# EAGLE library part AT24C512B (library memory-atmel)
EEPROM I2C serial bus, 512K (65,536 x 8)
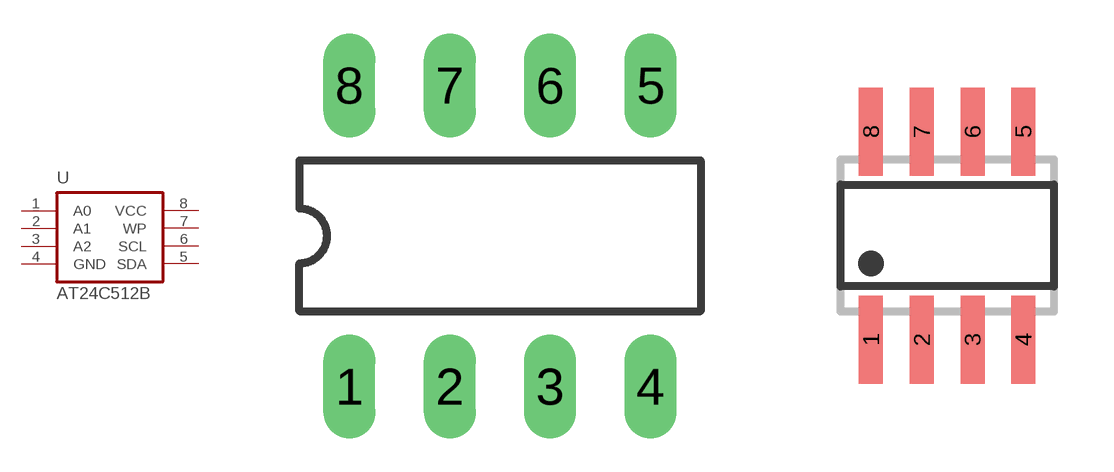
[diagram p19: symbol with the pads of DIL08; footprints DIL08, SO08-8S1]

Designator prefix U

## AT24C512B-8P3  [DIL08]
1  A0  in
2  A1  in
3  A2  in
4  GND  pwr
5  SDA
6  SCL
7  WP
8  VCC  pwr

## AT24C512B-8S1  [SO08-8S1]
Pads as for DIL08

## AT24C512B-8S2  [SO08-8S2]
Pads as for DIL08

## AT24C512B-8A2  [TSSOP8-8A2]
Pads as for DIL08

## Footprint DIL08 (pad centres in mm)
Dual In Line Package
drill 0.813 long: 1 -3.81,-3.81; 2 -1.27,-3.81; 3 1.27,-3.81; 4 3.81,-3.81; 5 3.81,3.81; 6 1.27,3.81; 7 -1.27,3.81; 8 -3.81,3.81

## Footprint SO08-8S1 (pad centres in mm)
SMALL OUTLINE INTEGRATED CIRCUIT 8S1, body 3.9 mm/JEDEC MS-012AA
smd 0.6 x 2.2: 1 -1.905,-2.6; 2 -0.635,-2.6; 3 0.635,-2.6; 4 1.905,-2.6; 5 1.905,2.6; 6 0.635,2.6; 7 -0.635,2.6; 8 -1.905,2.6

## Footprint SO08-8S2 (pad centres in mm)
SMALL OUTLINE INTEGRATED CIRCUIT 8S2 Package (EIAJ), 5.4 mm body
smd 0.6 x 2.2: 1 -1.905,-3.725; 2 -0.635,-3.725; 3 0.635,-3.725; 4 1.905,-3.725; 5 1.905,3.725; 6 0.635,3.725; 7 -0.635,3.725; 8 -1.905,3.725

## Footprint TSSOP8-8A2 (pad centres in mm)
Thin Shrink Small Outline Plastic 8 - 8A2 body 4.4 mm
smd 0.35 x 1.2: 1 -0.975,-3.025; 2 -0.325,-3.025; 3 0.325,-3.025; 4 0.975,-3.025; 5 0.975,3.025; 6 0.325,3.025; 7 -0.325,3.025; 8 -0.975,3.025